# Altium integrated library SSM-120-X-DV.IntLib: 1 symbol
Pins are listed as number, name and electrical type; pins without a type are passive.

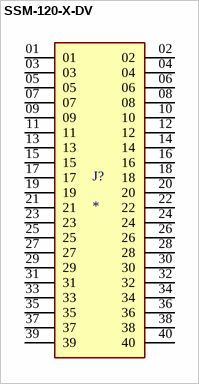
[diagram p0: symbol SSM-120-X-DV]

## SSM-120-X-DV
designator J?
MP: SSM-120-X-DV; MF: Samtec; Availability: Unavailable; Price: None; Value: *; Package: None
footprint SAMTEC_SSM-120-X-DV
pins: 01, 02, 03, 04, 05, 06, 07, 08, 09, 10, 11, 12, 13, 14, 15, 16, 17, 18, 19, 20, 21, 22, 23, 24, 25, 26, 27, 28, 29, 30, 31, 32, 33, 34, 35, 36, 37, 38, 39, 40